# EAGLE library part AOZ1037 (library Custom_old)
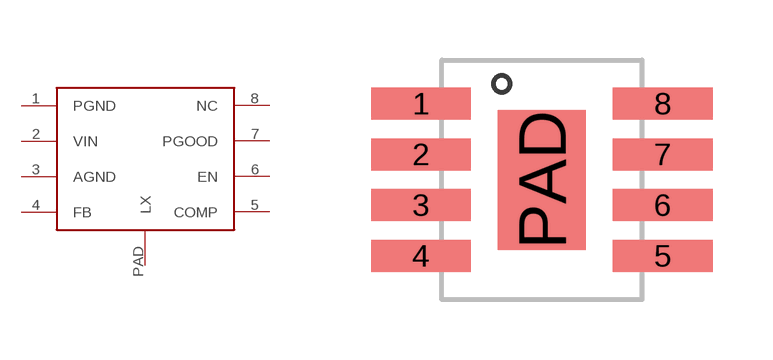
[diagram p0: symbol with the pads of SOIC8-EP; footprint SOIC8-EP]

Designator prefix -

## AOZ1037  [SOIC8-EP]
1  PGND
2  VIN
3  AGND
4  FB
5  COMP
6  EN
7  PGOOD
8  NC
PAD  LX

## Footprint SOIC8-EP (pad centres in mm)
smd 2.5 x 0.8: 1 -3.02,1.905; 2 -3.02,0.635; 3 -3.02,-0.635; 4 -3.02,-1.905; 5 3.02,-1.905; 6 3.02,-0.635; 7 3.02,0.635; 8 3.02,1.905
smd 2.2 x 3.5: PAD 0,0